# EAGLE library part 61400826021 (library InputOutputIO (rev19a))
WR-COM Horizontal Dual Stacked USB Type A=>Code : Con_I-O_COM_USB-2.0_A_61400826021 <http://katalog.we-online.de/media/images/eican/Con_I-O_COM_USB-2.0_A_61400826021_pf2.jpg> Details see: http://katalog.we-online.de/en/em/614_008_260_21 Created 2014-07-09, Karrer Zheng 2014 (C) Würth Elektronik
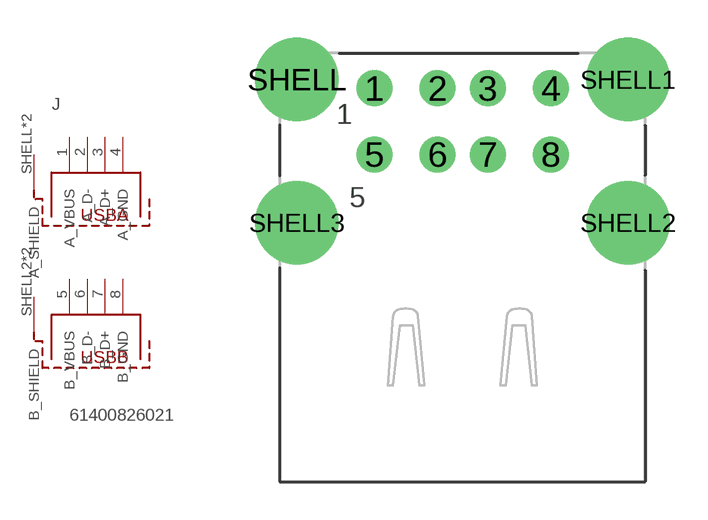
[diagram p65: symbol with the pads of 61400826021; footprint 61400826021]

Designator prefix J

## 61400826021  [61400826021]
1  A_VBUS
2  A_D-
3  A_D+
4  A_GND
5  B_VBUS
6  B_D-
7  B_D+
8  B_GND
SHELL  A_SHIELD
SHELL1  A_SHIELD
SHELL2  B_SHIELD
SHELL3  B_SHIELD

## Footprint 61400826021 (pad centres in mm)
WR-COM Horizontal Dual Stacked USB Type A
drill 0.92: 1 -3.5,5.33; 2 -1,5.33; 3 1,5.33; 4 3.5,5.33; 5 -3.5,2.71; 6 -1,2.71; 7 1,2.71; 8 3.5,2.71
drill 2.3: SHELL -6.57,5.68; SHELL1 6.57,5.68; SHELL2 6.57,0; SHELL3 -6.57,0